# Altium footprint library MX25R3235F.PcbLib: 3 footprints
Each footprint in its own frame and in the unit in brackets; x right, y up, seen from the top. Pads: shape width x height; smd on the part's side, far side on the other; paste and mask are expansions set on the pad; w line width, h text height; cw(c..) or ccw(c..) is an arc to the next point about the centre after c.
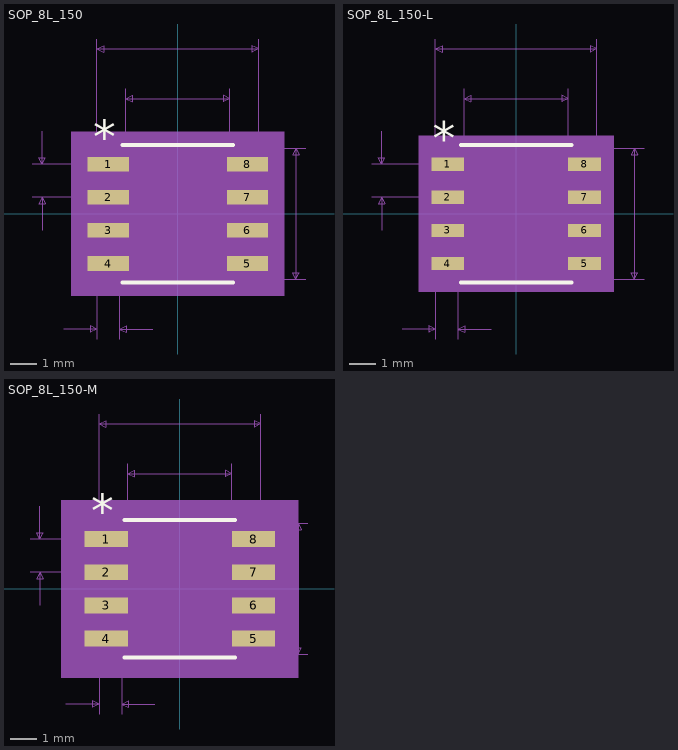
[diagram p0: the footprints below, top view; thin cyan lines are the x and y axes]

## SOP_8L_150 [mil]
pads (8):
  rect 62x22 smd paste+0 mask+0: 1(-105,75) 2(-105,25) 3(-105,-25) 4(-105,-75) 5(105,-75) 6(105,-25) 7(105,25) 8(105,75)
Top Overlay:
  lines w6: -83.5,-104 83.5,-104 ; -83.5,104 83.5,104
  text "*" at -127.5,92 h50
Mechanical 5:
  region: 161,-124 -161,-124 -161,124 161,124
Mechanical 7:
  lines w1: -220,25 -105,25 ; -220,75 -105,75 ; -205,-25 -205,25 ; -205,125 -205,75 ; -172,-174 -122,-174 ; -122,-189 -122,0 -122,264 ; -88,-189 -88,0 ; -78.5,0 -78.5,189 ; -38,-174 -88,-174 ; 0,-99 193.5,-99 ; 0,99 193.5,99 ; 78.5,0 78.5,189 ; 122,0 122,264 ; -205,25 -210,15 -200,15 -205,25 ; -205,75 -210,85 -200,85 -205,75 ; -122,-174 -132,-169 -132,-179 -122,-174 ; -122,249 122,249 ; -122,249 -112,254 -112,244 -122,249 ; -88,-174 -78,-169 -78,-179 -88,-174 ; -78.5,174 78.5,174 ; -78.5,174 -68.5,179 -68.5,169 -78.5,174 ; 78.5,174 68.5,179 68.5,169 78.5,174 ; 122,249 112,254 112,244 122,249 ; 178.5,-99 178.5,99 ; 178.5,-99 173.5,-89 183.5,-89 178.5,-99 ; 178.5,99 173.5,89 183.5,89 178.5,99
  text "Default Padstyle: RX62Y22D0T" at -350,-299 h50
  text "Pin One Padstyle: RX62Y22D0T" at -350,-359 h50
  text "Alt 1 Padstyle: OX60Y90D30P" at -337.5,-539 h50
  text "Alt 2 Padstyle: OX90Y60D30P" at -337.5,-599 h50
  text "0.157in/3.988mm" at -93.75,194 h25
  text "0.244in/6.198mm" at -93.75,269 h25
  text "0.198in/5.029mm" at 198.5,-12.5 h25
  text "0.05in/1.27mm" at -387.5,37.5 h25
  text "0.034in/0.864mm" at -198.75,-219 h25
Mechanical 13:
  lines w0: -12,99 ccw(c0,99) 12,99
  lines w1: -122,-85 -122,-65 -78.5,-65 -78.5,-85 -122,-85 ; -122,-35 -122,-15 -78.5,-15 -78.5,-35 -122,-35 ; -122,15 -122,35 -78.5,35 -78.5,15 -122,15 ; -122,65 -122,85 -78.5,85 -78.5,65 -122,65 ; -78.5,-99 78.5,-99 78.5,99 -78.5,99 -78.5,-99 ; 78.5,-85 78.5,-65 122,-65 122,-85 78.5,-85 ; 78.5,-35 78.5,-15 122,-15 122,-35 78.5,-35 ; 78.5,15 78.5,35 122,35 122,15 78.5,15 ; 78.5,65 78.5,85 122,85 122,65 78.5,65
  text "*" at -76,46 h50
Mechanical 15:
  region: -88.5,-96 -146,-96 -146,96 -88.5,96 -88.5,109 88.5,109 88.5,96 146,96 146,-96 88.5,-96 88.5,-109 -88.5,-109
  lines w6: -146,-96 -146,96 -88.5,96 -88.5,109 88.5,109 88.5,96 146,96 146,-96 88.5,-96 88.5,-109 -88.5,-109 -88.5,-96 -146,-96
3D body: height 10, standoff 0, extent 0,0 10,10

## SOP_8L_150-L [mil]
pads (8):
  rect 49.5x20 smd paste+0 mask+0: 1(-103.25,75) 2(-103.25,25) 3(-103.25,-25) 4(-103.25,-75) 5(103.25,-75) 6(103.25,-25) 7(103.25,25) 8(103.25,75)
Top Overlay:
  lines w6: -83.5,-104 83.5,-104 ; -83.5,104 83.5,104
  text "*" at -125.75,90 h50
Mechanical 5:
  region: 147,-118 -147,-118 -147,118 147,118
Mechanical 7:
  lines w1: -218.25,25 -103.25,25 ; -218.25,75 -103.25,75 ; -203.25,-25 -203.25,25 ; -203.25,125 -203.25,75 ; -172,-174 -122,-174 ; -122,-189 -122,0 -122,264 ; -88,-189 -88,0 ; -78.5,0 -78.5,189 ; -38,-174 -88,-174 ; 0,-99 193.5,-99 ; 0,99 193.5,99 ; 78.5,0 78.5,189 ; 122,0 122,264 ; -203.25,25 -208.25,15 -198.25,15 -203.25,25 ; -203.25,75 -208.25,85 -198.25,85 -203.25,75 ; -122,-174 -132,-169 -132,-179 -122,-174 ; -122,249 122,249 ; -122,249 -112,254 -112,244 -122,249 ; -88,-174 -78,-169 -78,-179 -88,-174 ; -78.5,174 78.5,174 ; -78.5,174 -68.5,179 -68.5,169 -78.5,174 ; 78.5,174 68.5,179 68.5,169 78.5,174 ; 122,249 112,254 112,244 122,249 ; 178.5,-99 178.5,99 ; 178.5,-99 173.5,-89 183.5,-89 178.5,-99 ; 178.5,99 173.5,89 183.5,89 178.5,99
  text "Default Padstyle: RX49p5Y20D0T" at -375,-299 h50
  text "Pin One Padstyle: RX49p5Y20D0T" at -375,-359 h50
  text "Alt 1 Padstyle: OX60Y90D30P" at -337.5,-539 h50
  text "Alt 2 Padstyle: OX90Y60D30P" at -337.5,-599 h50
  text "0.157in/3.988mm" at -93.75,194 h25
  text "0.244in/6.198mm" at -93.75,269 h25
  text "0.198in/5.029mm" at 198.5,-12.5 h25
  text "0.05in/1.27mm" at -385.75,37.5 h25
  text "0.034in/0.864mm" at -198.75,-219 h25
Mechanical 13:
  lines w0: -12,99 ccw(c0,99) 12,99
  lines w1: -122,-85 -122,-65 -78.5,-65 -78.5,-85 -122,-85 ; -122,-35 -122,-15 -78.5,-15 -78.5,-35 -122,-35 ; -122,15 -122,35 -78.5,35 -78.5,15 -122,15 ; -122,65 -122,85 -78.5,85 -78.5,65 -122,65 ; -78.5,-99 78.5,-99 78.5,99 -78.5,99 -78.5,-99 ; 78.5,-85 78.5,-65 122,-65 122,-85 78.5,-85 ; 78.5,-35 78.5,-15 122,-15 122,-35 78.5,-35 ; 78.5,15 78.5,35 122,35 122,15 78.5,15 ; 78.5,65 78.5,85 122,85 122,65 78.5,65
  text "*" at -76,46 h50
Mechanical 15:
  region: -82.5,-89 -132,-89 -132,89 -82.5,89 -82.5,103 82.5,103 82.5,89 132,89 132,-89 82.5,-89 82.5,-103 -82.5,-103
  lines w6: -132,-89 -132,89 -82.5,89 -82.5,103 82.5,103 82.5,89 132,89 132,-89 82.5,-89 82.5,-103 -82.5,-103 -82.5,-89 -132,-89
3D body: height 10, standoff 0, extent 0,0 10,10

## SOP_8L_150-M [mil]
pads (8):
  rect 65.5x24 smd paste+0 mask+0: 1(-111.25,75) 2(-111.25,25) 3(-111.25,-25) 4(-111.25,-75) 5(111.25,-75) 6(111.25,-25) 7(111.25,25) 8(111.25,75)
Top Overlay:
  lines w6: -83.5,-104 83.5,-104 ; -83.5,104 83.5,104
  text "*" at -133.75,94 h50
Mechanical 5:
  region: 179,-134 -179,-134 -179,134 179,134
Mechanical 7:
  lines w1: -226.25,25 -111.25,25 ; -226.25,75 -111.25,75 ; -211.25,-25 -211.25,25 ; -211.25,125 -211.25,75 ; -172,-174 -122,-174 ; -122,-189 -122,0 -122,264 ; -88,-189 -88,0 ; -78.5,0 -78.5,189 ; -38,-174 -88,-174 ; 0,-99 193.5,-99 ; 0,99 193.5,99 ; 78.5,0 78.5,189 ; 122,0 122,264 ; -211.25,25 -216.25,15 -206.25,15 -211.25,25 ; -211.25,75 -216.25,85 -206.25,85 -211.25,75 ; -122,-174 -132,-169 -132,-179 -122,-174 ; -122,249 122,249 ; -122,249 -112,254 -112,244 -122,249 ; -88,-174 -78,-169 -78,-179 -88,-174 ; -78.5,174 78.5,174 ; -78.5,174 -68.5,179 -68.5,169 -78.5,174 ; 78.5,174 68.5,179 68.5,169 78.5,174 ; 122,249 112,254 112,244 122,249 ; 178.5,-99 178.5,99 ; 178.5,-99 173.5,-89 183.5,-89 178.5,-99 ; 178.5,99 173.5,89 183.5,89 178.5,99
  text "Default Padstyle: RX65p5Y24D0T" at -375,-299 h50
  text "Pin One Padstyle: RX65p5Y24D0T" at -375,-359 h50
  text "Alt 1 Padstyle: OX60Y90D30P" at -337.5,-539 h50
  text "Alt 2 Padstyle: OX90Y60D30P" at -337.5,-599 h50
  text "0.157in/3.988mm" at -93.75,194 h25
  text "0.244in/6.198mm" at -93.75,269 h25
  text "0.198in/5.029mm" at 198.5,-12.5 h25
  text "0.05in/1.27mm" at -393.75,37.5 h25
  text "0.034in/0.864mm" at -198.75,-219 h25
Mechanical 13:
  lines w0: -12,99 ccw(c0,99) 12,99
  lines w1: -122,-85 -122,-65 -78.5,-65 -78.5,-85 -122,-85 ; -122,-35 -122,-15 -78.5,-15 -78.5,-35 -122,-35 ; -122,15 -122,35 -78.5,35 -78.5,15 -122,15 ; -122,65 -122,85 -78.5,85 -78.5,65 -122,65 ; -78.5,-99 78.5,-99 78.5,99 -78.5,99 -78.5,-99 ; 78.5,-85 78.5,-65 122,-65 122,-85 78.5,-85 ; 78.5,-35 78.5,-15 122,-15 122,-35 78.5,-35 ; 78.5,15 78.5,35 122,35 122,15 78.5,15 ; 78.5,65 78.5,85 122,85 122,65 78.5,65
  text "*" at -76,46 h50
Mechanical 15:
  region: -98.5,-107 -164,-107 -164,107 -98.5,107 -98.5,119 98.5,119 98.5,107 164,107 164,-107 98.5,-107 98.5,-119 -98.5,-119
  lines w6: -164,-107 -164,107 -98.5,107 -98.5,119 98.5,119 98.5,107 164,107 164,-107 98.5,-107 98.5,-119 -98.5,-119 -98.5,-107 -164,-107
3D body: height 10, standoff 0, extent 0,0 10,10